# EAGLE library part RPI40 (library bt)
Raspberry Pi 40-pin, A+, B+, 2, 3 40-pin connector for Raspberry Pi 1(A+,B+), 2, and 3
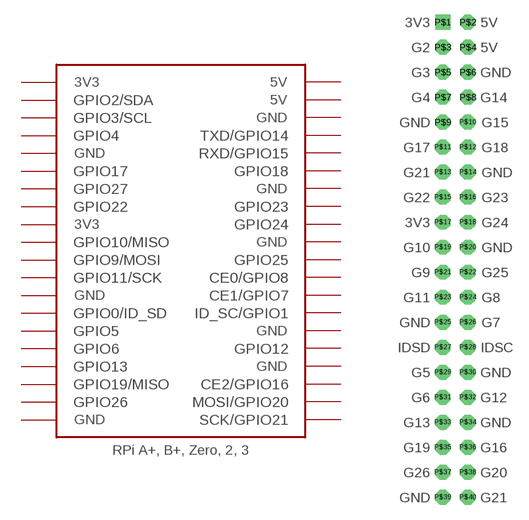
[diagram p14: symbol with the pads of RPI_40; footprint RPI_40]

Designator prefix -

## RPI40  [RPI_40]
P$1  3V3_1
P$2  5V_1
P$3  GPIO2/SDA
P$4  5V_2
P$5  GPIO3/SCL
P$6  GND1
P$7  GPIO4
P$8  TXD/GPIO14
P$9  GND2
P$10  RXD/GPIO15
P$11  GPIO17
P$12  GPIO18
P$13  GPIO27
P$14  GND3
P$15  GPIO22
P$16  GPIO23
P$17  3V3_2
P$18  GPIO24
P$19  GPIO10/MISO
P$20  GND4
P$21  GPIO9/MOSI
P$22  GPIO25
P$23  GPIO11/SCK
P$24  CE0/GPIO8
P$25  GND5
P$26  CE1/GPIO7
P$27  GPIO0/ID_SD
P$28  ID_SC/GPIO1
P$29  GPIO5
P$30  GND6
P$31  GPIO6
P$32  GPIO12
P$33  GPIO13
P$34  GND7
P$35  GPIO19/MISO
P$36  CE2/GPIO16
P$37  GPIO26
P$38  MOSI/GPIO20
P$39  GND8
P$40  SCK/GPIO21

## Footprint RPI_40 (pad centres in mm)
drill 1 square: P$1 -1.27,22.86
drill 1 octagon: P$2 1.27,22.86; P$3 -1.27,20.32; P$4 1.27,20.32; P$5 -1.27,17.78; P$6 1.27,17.78; P$7 -1.27,15.24; P$8 1.27,15.24; P$9 -1.27,12.7; P$10 1.27,12.7; P$11 -1.27,10.16; P$12 1.27,10.16; P$13 -1.27,7.62; P$14 1.27,7.62; P$15 -1.27,5.08; P$16 1.27,5.08; P$17 -1.27,2.54; P$18 1.27,2.54; P$19 -1.27,0; P$20 1.27,0; P$21 -1.27,-2.54; P$22 1.27,-2.54; P$23 -1.27,-5.08; P$24 1.27,-5.08; P$25 -1.27,-7.62; P$26 1.27,-7.62; P$27 -1.27,-10.16; P$28 1.27,-10.16; P$29 -1.27,-12.7; P$30 1.27,-12.7; P$31 -1.27,-15.24; P$32 1.27,-15.24; P$33 -1.27,-17.78; P$34 1.27,-17.78; P$35 -1.27,-20.32; P$36 1.27,-20.32; P$37 -1.27,-22.86; P$38 1.27,-22.86; P$39 -1.27,-25.4; P$40 1.27,-25.4